# Altium schematic symbol library TVS_UNI.Schlib: 1 symbol
Pins are listed as number, name and electrical type; pins without a type are passive.

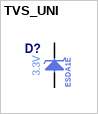
[diagram p0: symbol TVS_UNI]

## TVS_UNI
designator D?  Working Voltage: 3.3V  Part Number: ESDA1E  (hidden comment: TVS_UNI)
pins: 1 C, 2 A